# Altium footprint library Modules.PcbLib: 6 footprints
Each footprint in its own frame and in the unit in brackets; x right, y up, seen from the top. Pads: shape width x height; smd on the part's side, far side on the other; paste and mask are expansions set on the pad; w line width, h text height; cw(c..) or ccw(c..) is an arc to the next point about the centre after c.
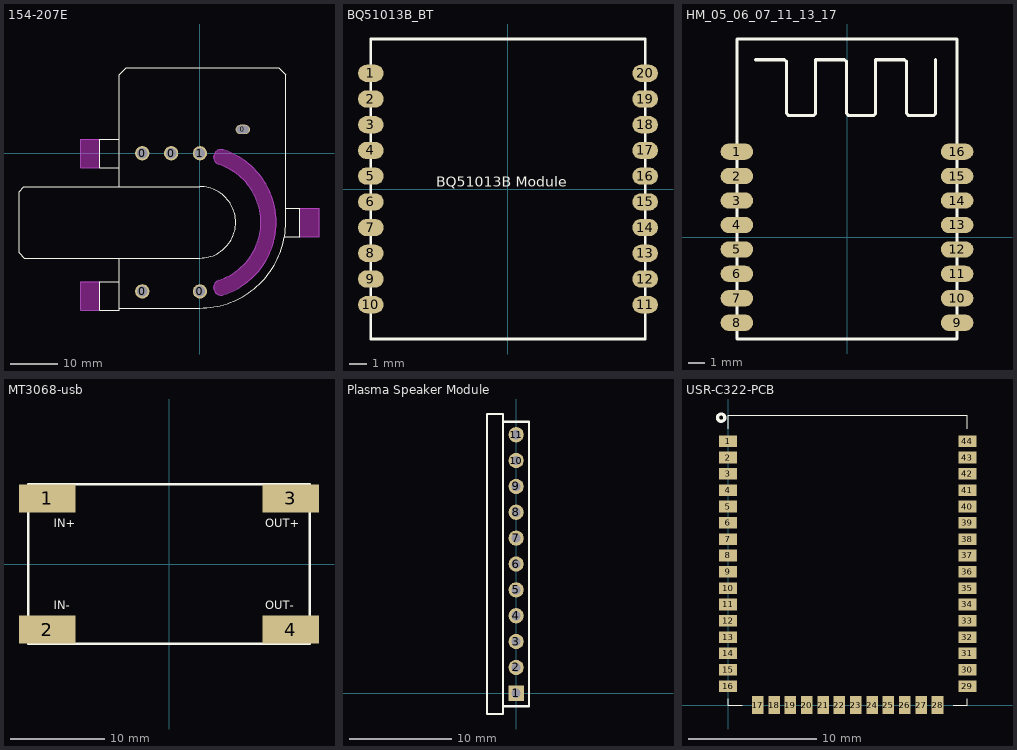
[diagram p0: the footprints below, top view; thin cyan lines are the x and y axes]

## 154-207E [mm]
pads (6):
  round 3 hole 2.2: 0(-12.1,-29) 0(-12.1,0) 0(-6.05,0) 0(0,-29) 1(0,0)
  oval 3x2 hole 1.5 slot 2.5 at 0 deg: 0(9,5)
Top Overlay:
  lines w0.2: -17,-27 -21,-27 -21,-33 -17,-33 -17,-32.5 ; -17,-3 -21,-3 -21,3 -17,3 ; 17.75,-17.5 21,-17.5 21,-11.5 18,-11.5 ; -17,-32.5 0,-32.5 ccw(c0,-14.5) 18,-14.5 18,16.544 16.544,18 -15.528,18 -17,16.528 -17,4.5 -17,-7 ; -17,-32.5 -17,-22 ; -17,-22 -36.928,-22 -38,-20.928 -38,-8.028 -36.972,-7 -17,-7 ; -17,-22 0,-22 ccw(c0,-14.5) 0,-7 -17,-7
Keep-Out Layer:
  board cut-out: 21,-17.5 25,-17.5 25,-11.5 21,-11.5
  board cut-out: -25,-33 -21,-33 -21,-27 -25,-27
  board cut-out: -25,-3 -21,-3 -21,3 -25,3
  board cut-out: 4.944,0.717 5.542,0.523 6.704,0.042 7.824,-0.529 8.896,-1.186 9.913,-1.925 10.869,-2.742 11.758,-3.631 12.575,-4.587 13.314,-5.604 13.971,-6.676 14.542,-7.796 15.023,-8.958 15.411,-10.154 15.705,-11.376 15.901,-12.618 16,-13.871 16,-15.129 15.901,-16.382 15.705,-17.624 15.411,-18.846 15.023,-20.042 14.542,-21.204 13.971,-22.324 13.314,-23.396 12.575,-24.413 11.758,-25.369 10.869,-26.258 9.913,-27.075 8.896,-27.814 7.824,-28.471 6.704,-29.042 5.542,-29.523 4.944,-29.717 4.794,-29.766 4.481,-29.803 4.167,-29.778 3.864,-29.692 3.583,-29.549 3.336,-29.354 3.131,-29.114 2.977,-28.84 2.879,-28.54 2.842,-28.227 2.867,-27.913 2.953,-27.609 3.096,-27.328 3.291,-27.081 3.531,-26.876 3.806,-26.722 3.955,-26.674 4.43,-26.509 5.359,-26.124 6.254,-25.668 7.111,-25.143 7.924,-24.552 8.689,-23.899 9.399,-23.189 10.052,-22.424 10.643,-21.611 11.168,-20.754 11.624,-19.859 12.009,-18.93 12.319,-17.974 12.554,-16.997 12.711,-16.004 12.79,-15.003 12.79,-13.997 12.711,-12.996 12.554,-12.003 12.319,-11.026 12.009,-10.07 11.624,-9.141 11.168,-8.246 10.643,-7.389 10.052,-6.576 9.399,-5.811 8.689,-5.101 7.924,-4.448 7.111,-3.857 6.254,-3.332 5.359,-2.876 4.43,-2.491 3.955,-2.326 3.806,-2.278 3.531,-2.124 3.291,-1.919 3.096,-1.672 2.953,-1.391 2.867,-1.087 2.842,-0.773 2.879,-0.46 2.977,-0.16 3.131,0.115 3.336,0.354 3.583,0.549 3.864,0.692 4.167,0.778 4.481,0.803 4.794,0.766
Mechanical 1:
  lines w0.2: -25,-33 -21,-33 -21,-27 -25,-27 -25,-33 ; -25,-3 -25,3 -21,3 -21,-3 -25,-3 ; 21,-17.5 21,-11.5 25,-11.5 25,-17.5 21,-17.5
  lines w0.254: 3.955,-26.674 ccw(c0,-14.5) 3.955,-2.326 cw(c4.45,-0.805) 4.944,0.717 cw(c0,-14.5) 4.944,-29.717 cw(c4.45,-28.195) 3.955,-26.674

## BQ51013B_BT [mm] "Wireless Receiver Designed by Burning"
pads (20):
  oval 1.5x1 smd: 1(-8,6.75) 2(-8,5.25) 3(-8,3.75) 4(-8,2.25) 5(-8,0.75) 6(-8,-0.75) 7(-8,-2.25) 8(-8,-3.75) 9(-8,-5.25) 10(-8,-6.75) 11(8,-6.75) 12(8,-5.25) 13(8,-3.75) 14(8,-2.25) 15(8,-0.75) 16(8,0.75) 17(8,2.25) 18(8,3.75) 19(8,5.25) 20(8,6.75)
Top Overlay:
  lines w0.15: -8,-8.75 8,-8.75 8,8.75 -8,8.75 -8,-8.75
  text "BQ51013B Module" at -4.191,0.127 h0.6

## HM_05_06_07_11_13_17 [mm]
pads (16):
  oval 2x1 smd: 1(-6.756,5.25) 2(-6.756,3.75) 3(-6.756,2.25) 4(-6.756,0.75) 5(-6.756,-0.75) 6(-6.756,-2.25) 7(-6.756,-3.75) 8(-6.756,-5.25) 9(6.756,-5.25) 10(6.756,-3.75) 11(6.756,-2.25) 12(6.756,-0.75) 13(6.756,0.75) 14(6.756,2.25) 15(6.756,3.75) 16(6.756,5.25)
Top Overlay:
  lines w0.2: -5.613,10.895 -3.835,10.895 -3.708,10.768 -3.708,7.593 -3.581,7.466 -2.057,7.466 -1.93,7.593 -1.93,10.895 -0.152,10.895 -0.025,10.768 -0.025,7.593 0.102,7.466 1.626,7.466 1.753,7.593 1.753,10.895 3.531,10.895 3.658,10.768 3.658,7.593 3.785,7.466 5.309,7.466 5.436,7.593 5.436,10.895 ; -6.756,-6.25 6.757,-6.25 6.756,7.085 6.756,12.165 -6.756,12.165 -6.756,7.085 -6.756,-6.25

## MT3068-usb [mm] "MT3068 with micro usb"
pads (4):
  rect 6x3 smd: 1(-13,7) 2(-13,-7) 3(13,7) 4(13,-7)
Top Overlay:
  lines w0.254: 14.997,8.472 15.025,8.5 ; 15.025,8.5 -15,8.5 -15,-8.5 15.025,-8.5 15.025,8.5
  text "OUT-" at 10.287,-4.826 h0.89
  text "OUT+" at 10.287,3.937 h0.89
  text "IN+" at -12.319,3.937 h0.89
  text "IN-" at -12.319,-4.826 h0.89
3D body: height 1.2, standoff 0, extent -14.986,-8.509 14.986,8.509
3D body: height 4.5, standoff 1.2, extent 0,-0.762 8.89,8.128

## Plasma Speaker Module [mm] "Signal Module for Plasma Speaker"
pads (11):
  rect 1.5x1.5 hole 0.9: 1(0,0)
  round 1.5 hole 0.9: 2(0,2.54) 3(0,5.08) 4(0,7.62) 5(0,10.16) 6(0,12.7) 7(0,15.24) 8(0,17.78) 9(0,20.32) 10(0,22.86) 11(0,25.4)
Top Overlay:
  lines w0.2: -1.27,-1.27 1.27,-1.27 1.27,26.67 -1.27,26.67 ; -2.87,-2.032 -1.27,-2.032 -1.27,27.432 -2.87,27.432 -2.87,-2.032

## USR-C322-PCB [mm] "USR-C322封装"
pads (44):
  rect 1.4x0.9 smd: 1(0,20.52) 2(0,19.25) 3(0,17.98) 4(0,16.71) 5(0,15.44) 6(0,14.17) 7(0,12.9) 8(0,11.63) 9(0,10.36) 10(0,9.09) 11(0,7.82) 12(0,6.55) 13(0,5.28) 14(0,4.01) 15(0,2.74) 16(0,1.47) 29(18.62,1.47) 30(18.62,2.74) 31(18.62,4.01) 32(18.62,5.28) 33(18.62,6.55) 34(18.62,7.82) 35(18.62,9.09) 36(18.62,10.36) 37(18.62,11.63) 38(18.62,12.9) 39(18.62,14.17) 40(18.62,15.44) 41(18.62,16.71) 42(18.62,17.98) 43(18.62,19.25) 44(18.62,20.52)
  rect 0.9x1.4 smd: 17(2.31,0) 18(3.58,0) 19(4.85,0) 20(6.12,0) 21(7.39,0) 22(8.66,0) 23(9.93,0) 24(11.2,0) 25(12.47,0) 26(13.74,0) 27(15.02,0) 28(16.29,0)
Top Overlay:
  circle w0.254: c-0.538,22.352 r0.284
  lines w0.07: 0,0.5 0,0 1.12,0 ; 0,21.5 0,22.55 18.62,22.55 18.62,21.5 ; 17.5,0 18.62,0 18.62,0.5